# Altium footprint library UNO-TH_Rev3e2.PcbLib: 31 footprints (part 1 of 2)
Each footprint in its own frame and in the unit in brackets; x right, y up, seen from the top. Pads: shape width x height; smd on the part's side, far side on the other; paste and mask are expansions set on the pad; w line width, h text height; cw(c..) or ccw(c..) is an arc to the next point about the centre after c.
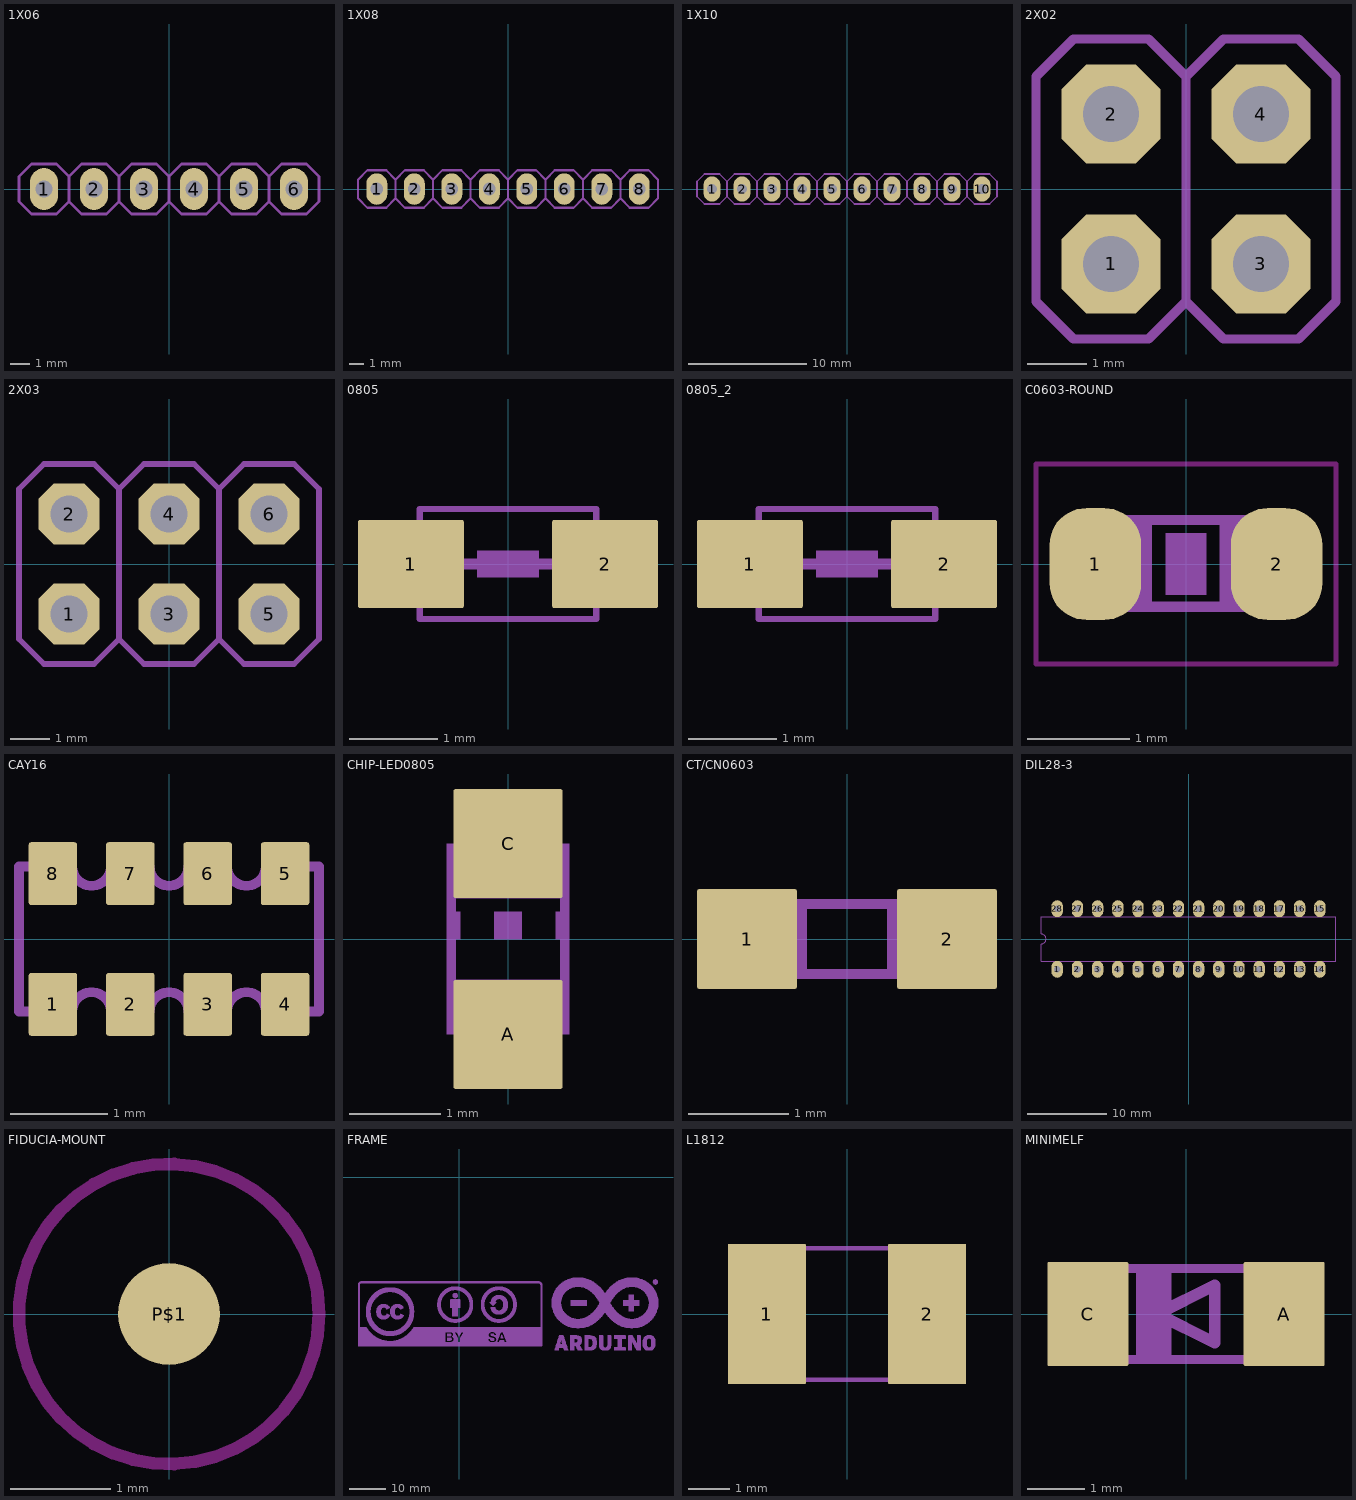
[diagram p0: the footprints below, top view; thin cyan lines are the x and y axes]

## 1X06 [mil] "1X06"
pads (6):
  oval 56x84 / inner round 0 / far side oval 56x84 hole 33.46: 1(-250,0) 2(-150,0) 3(-50,0) 4(50,0) 5(150,0) 6(250,0)
Mechanical 3:
  region: 240,-10 240,10 260,10 260,-10
  region: -260,-10 -260,10 -240,10 -240,-10
  region: -160,-10 -160,10 -140,10 -140,-10
  region: -60,-10 -60,10 -40,10 -40,-10
  region: 40,-10 40,10 60,10 60,-10
  region: 140,-10 140,10 160,10 160,-10
Mechanical 7:
  lines w6: -200,-25 -175,-50 -125,-50 -100,-25 ; -200,-25 -225,-50 -275,-50 -300,-25 -300,25 -275,50 -225,50 -200,25 ; -200,-25 -200,25 ; -200,25 -175,50 -125,50 -100,25 ; -100,-25 -100,25 ; -100,-25 -75,-50 -25,-50 0,-25 ; -100,25 -75,50 -25,50 0,25 ; 0,-25 25,-50 75,-50 100,-25 ; 0,-25 0,25 ; 0,25 25,50 75,50 100,25 ; 100,-25 125,-50 175,-50 200,-25 ; 100,-25 100,25 ; 100,25 125,50 175,50 200,25 ; 200,-25 225,-50 275,-50 300,-25 300,25 275,50 225,50 200,25 ; 200,-25 200,25

## 1X08 [mil] "1X08"
pads (8):
  oval 56x84 / inner round 0 / far side oval 56x84 hole 33.46: 1(-350,0) 2(-250,0) 3(-150,0) 4(-50,0) 5(50,0) 6(150,0) 7(250,0) 8(350,0)
Mechanical 3:
  region: 240,-10 240,10 260,10 260,-10
  region: 140,-10 140,10 160,10 160,-10
  region: 40,-10 40,10 60,10 60,-10
  region: -60,-10 -60,10 -40,10 -40,-10
  region: -160,-10 -160,10 -140,10 -140,-10
  region: -260,-10 -260,10 -240,10 -240,-10
  region: -360,-10 -360,10 -340,10 -340,-10
  region: 340,-10 340,10 360,10 360,-10
Mechanical 7:
  lines w6: -300,-25 -300,25 ; -300,-25 -325,-50 -375,-50 -400,-25 -400,25 -375,50 -325,50 -300,25 ; -300,-25 -275,-50 -225,-50 -200,-25 ; -300,25 -275,50 -225,50 -200,25 ; -200,-25 -175,-50 -125,-50 -100,-25 ; -200,-25 -200,25 ; -200,25 -175,50 -125,50 -100,25 ; -100,-25 -100,25 ; -100,-25 -75,-50 -25,-50 0,-25 ; -100,25 -75,50 -25,50 0,25 ; 0,-25 0,25 ; 0,-25 25,-50 75,-50 100,-25 ; 0,25 25,50 75,50 100,25 ; 100,-25 125,-50 175,-50 200,-25 ; 100,-25 100,25 ; 100,25 125,50 175,50 200,25 ; 200,-25 200,25 ; 200,-25 225,-50 275,-50 300,-25 ; 200,25 225,50 275,50 300,25 ; 300,-25 300,25 ; 300,-25 325,-50 375,-50 400,-25 400,25 375,50 325,50 300,25

## 1X10 [mil] "1X10"
pads (10):
  oval 56x84 / inner round 0 / far side oval 56x84 hole 33.46: 1(-450,0) 2(-350,0) 3(-250,0) 4(-150,0) 5(-50,0) 6(50,0) 7(150,0) 8(250,0) 9(350,0) 10(450,0)
Mechanical 3:
  region: 340,-10 340,10 360,10 360,-10
  region: 240,-10 240,10 260,10 260,-10
  region: 140,-10 140,10 160,10 160,-10
  region: 40,-10 40,10 60,10 60,-10
  region: -60,-10 -60,10 -40,10 -40,-10
  region: -160,-10 -160,10 -140,10 -140,-10
  region: -260,-10 -260,10 -240,10 -240,-10
  region: -360,-10 -360,10 -340,10 -340,-10
  region: -460,-10 -460,10 -440,10 -440,-10
  region: 440,-10 440,10 460,10 460,-10
Mechanical 7:
  lines w6: -400,-25 -400,25 ; -400,-25 -425,-50 -475,-50 -500,-25 -500,25 -475,50 -425,50 -400,25 ; -400,-25 -375,-50 -325,-50 -300,-25 ; -400,25 -375,50 -325,50 -300,25 ; -300,-25 -275,-50 -225,-50 -200,-25 ; -300,-25 -300,25 ; -300,25 -275,50 -225,50 -200,25 ; -200,-25 -200,25 ; -200,-25 -175,-50 -125,-50 -100,-25 ; -200,25 -175,50 -125,50 -100,25 ; -100,-25 -100,25 ; -100,-25 -75,-50 -25,-50 0,-25 ; -100,25 -75,50 -25,50 0,25 ; 0,-25 25,-50 75,-50 100,-25 ; 0,-25 0,25 ; 0,25 25,50 75,50 100,25 ; 100,-25 100,25 ; 100,-25 125,-50 175,-50 200,-25 ; 100,25 125,50 175,50 200,25 ; 200,-25 200,25 ; 200,-25 225,-50 275,-50 300,-25 ; 200,25 225,50 275,50 300,25 ; 300,-25 325,-50 375,-50 400,-25 ; 300,-25 300,25 ; 300,25 325,50 375,50 400,25 ; 400,-25 400,25 ; 400,-25 425,-50 475,-50 500,-25 500,25 475,50 425,50 400,25

## 2X02 [mil] "2X02"
pads (4):
  oct 66x66 / inner round 0 / far side oct 66x66 hole 37.4: 1(-50,-50) 2(-50,50) 3(50,-50) 4(50,50)
Mechanical 3:
  region: -60,-60 -60,-40 -40,-40 -40,-60
  region: -60,40 -60,60 -40,60 -40,40
  region: 40,40 40,60 60,60 60,40
  region: 40,-60 40,-40 60,-40 60,-60
Mechanical 7:
  lines w6: 0,-75 -25,-100 -75,-100 -100,-75 -100,75 -75,100 -25,100 0,75 ; 0,-75 25,-100 75,-100 100,-75 100,75 75,100 25,100 0,75 ; 0,-75 0,75

## 2X03 [mil] "2X03"
pads (6):
  oct 61.02x61.02 / inner round 0 / far side oct 61.02x61.02 hole 37.4: 1(-100,-50) 2(-100,50) 3(0,-50) 4(0,50) 5(100,-50) 6(100,50)
Mechanical 3:
  region: 90,-60 90,-40 110,-40 110,-60
  region: 90,40 90,60 110,60 110,40
  region: -10,-60 -10,-40 10,-40 10,-60
  region: -10,40 -10,60 10,60 10,40
  region: -110,40 -110,60 -90,60 -90,40
  region: -110,-60 -110,-40 -90,-40 -90,-60
Mechanical 7:
  lines w6: -50,-75 -50,75 ; -50,-75 -25,-100 25,-100 50,-75 ; -50,-75 -75,-100 -125,-100 -150,-75 -150,75 -125,100 -75,100 -50,75 ; -50,75 -25,100 25,100 50,75 ; 50,-75 75,-100 125,-100 150,-75 150,75 125,100 75,100 50,75 ; 50,-75 50,75

## 0805 [mm] "0805"
pads (2):
  rrect5% 1.2x1 smd: 1(-1.1,0) 2(1.1,0)
Mechanical 3:
  lines w0.07: -1,-0.625 -1,0.625 ; 1,-0.625 1,0.625
  lines w0.127: -1.1,0 1.1,0
Mechanical 7:
  region: -0.35,-0.15 -0.35,0.15 0.35,0.15 0.35,-0.15
  lines w0.07: -1,-0.625 1,-0.625 ; -1,0.625 1,0.625
  lines w0.127: -1.3,0 1.2,0

## 0805_2 [mm]
pads (2):
  rrect5% 1.2x1 smd: 1(-1.1,0) 2(1.1,0)
Mechanical 3:
  lines w0.07: -1,-0.625 -1,0.625 ; 1,-0.625 1,0.625
  lines w0.127: -1.1,0 1.1,0
Mechanical 7:
  region: -0.35,-0.15 -0.35,0.15 0.35,0.15 0.35,-0.15
  lines w0.07: -1,-0.625 1,-0.625 ; -1,0.625 1,0.625
  lines w0.127: -1.3,0 1.2,0

## C0603-ROUND [mil] "C0603-ROUND"
pads (2):
  rrect80% 35.37x43.31 smd: 1(-35,0) 2(35,0)
Top Layer keep-out:
  lines w2: -57.99,-38.7 57.99,-38.7 57.99,38.7 -57.99,38.7 -57.99,-38.7
Mechanical 3:
  region: -33,-18.5 -33,18.9 -13.31,18.9 -13.31,-18.5
  region: 13,-18.5 13,18.9 32.69,18.9 32.69,-18.5
  lines w4: -14.02,-16.5 14.02,-16.5 ; -14.02,17.01 14.02,17.01
Top Glue Points:
  region: -7.87,-11.81 -7.87,11.81 7.87,11.81 7.87,-11.81

## CAY16 [mm] "CAY16"
pads (8):
  rrect10% 0.5x0.65 smd: 1(-1.2,-0.675) 2(-0.4,-0.675) 3(0.4,-0.675) 4(1.2,-0.675) 5(1.2,0.675) 6(0.4,0.675) 7(-0.4,0.675) 8(-1.2,0.675)
Mechanical 3:
  lines w0.102: -1.55,-0.75 -1.55,0.75 -1,0.75 ccw(c-0.8,0.75) -0.6,0.75 -0.2,0.75 ccw(c0,0.75) 0.2,0.75 0.6,0.75 ccw(c0.8,0.75) 1,0.75 1.55,0.75 1.55,-0.75 1,-0.75 ccw(c0.8,-0.75) 0.6,-0.75 0.2,-0.75 ccw(c0,-0.75) -0.2,-0.75 -0.6,-0.75 ccw(c-0.8,-0.75) -1,-0.75 -1.55,-0.75

## CHIP-LED0805 [mil] "CHIP-LED0805"
pads (2):
  rrect4% 47.24x47.24 smd: A(0,-41.34) C(0,41.34)
Mechanical 3:
  region: -26.57,17.72 -26.57,41.34 26.57,41.34 26.57,17.72
  region: -26.57,-41.34 -26.57,-17.72 26.57,-17.72 26.57,-41.34
  lines w4: -24.61,-17.72 -24.61,17.72 ; 24.61,-18.7 24.61,17.72
Mechanical 7:
  region: -26.57,0 -26.57,11.81 -20.67,11.81 -20.67,0
  region: 20.67,0 20.67,11.81 26.57,11.81 26.57,0
  region: -5.91,0 -5.91,11.81 5.91,11.81 5.91,0

## CT/CN0603 [mm] "CT/CN0603"
pads (2):
  rrect5% 1x1 smd: 1(-1,0) 2(1,0)
Mechanical 3:
  region: -0.75,-0.35 -0.75,0.35 -0.4,0.35 -0.4,-0.35
  region: 0.75,0.35 0.75,-0.35 0.4,-0.35 0.4,0.35
  lines w0.102: -0.75,-0.35 0.75,-0.35 0.75,0.35 -0.75,0.35 -0.75,-0.35

## DIL28-3 [mil] "DIL28-3"
pads (28):
  oval 56x84 / inner round 0 / far side oval 56x84 hole 33.46: 1(-650,-150) 2(-550,-150) 3(-450,-150) 4(-350,-150) 5(-250,-150) 6(-150,-150) 7(-50,-150) 8(50,-150) 9(150,-150) 10(250,-150) 11(350,-150) 12(450,-150) 13(550,-150) 14(650,-150) 15(650,150) 16(550,150) 17(450,150) 18(350,150) 19(250,150) 20(150,150) 21(50,150) 22(-50,150) 23(-150,150) 24(-250,150) 25(-350,150) 26(-450,150) 27(-550,150) 28(-650,150)
Mechanical 7:
  lines w6: -730,-110 -730,-25 ccw(c-730,0) -730,25 -730,110 730,110 730,-110 -730,-110

## FIDUCIA-MOUNT [mil] "FIDUCIA-MOUNT"
pads (1):
  rrect100% 40x40 smd: P$1(0,0)
Top Layer keep-out:
  circle w5: c0,0 r59.06
Top Solder:
  circle w86: c0,0 r19.69

## FRAME [mil] "FRAME"
Mechanical 20:
  drawing of 6280 lines, arcs and shapes, not listed
  text "Reference Designs ARE PROVIDED \"AS IS\" AND \"WITH ALL FAULTS. Arduino SA DISCLAIMS ALL OTHER WARRANTIES, EXPRESS OR IMPLIED," at -3100,-291.28 h50.2
  text "REGARDING PRODUCTS, INCLUDING BUT NOT LIMITED TO, ANY IMPLIED WARRANTIES OF MERCHANTABILITY OR FITNESS FOR A PARTICULAR PURPOSE" at -3100,-379.87 h50.2
  text "Arduino SA may make changes to specifications and product descriptions at any time, without notice. The Customer must not" at -3100,-557.05 h50.2
  text "rely on the absence or characteristics of any features or instructions marked \"reserved\" or \"undefined.\" Arduino SA reserves" at -3100,-645.64 h50.2
  text "these for future definition and shall have no responsibility whatsoever for conflicts or incompatibilities arising from future changes to them." at -3100,-734.23 h50.2
  text "The product information on the Web Site or Materials is subject to change without notice. Do not finalize a design with this info" at -3100,-822.82 h50.2
  text "ARDUINO and other Arduino brands and logos and Trademarks of Arduino SA. All Arduino SA Trademarks cannot be used without owner's formal permission" at -3100,-1000 h50.2

## L1812 [mil] "L1812"
pads (2):
  rrect2% 74.8x133.86 smd: 1(-76.77,0) 2(76.77,0)
Mechanical 3:
  region: -94,-65 -94,64.92 -56.6,64.92 -56.6,-65
  region: 57,-65 57,64.92 94.4,64.92 94.4,-65
  lines w4: -58,63 58,63 ; -57,-63 58,-63

## MINIMELF [mil] "MINIMELF"
pads (2):
  rrect3% 55.12x70.87 smd: A(66.93,0) C(-66.93,0)
Mechanical 3:
  region: -73,-34 -73,34 -51,34 -51,-34
  region: 51,-34 51,34 73,34 73,-34
  lines w6: -52,-31 52,-31 ; -52,31 52,31
Mechanical 7:
  region: -34,-31 -34,31 -10,31 -10,-31
  lines w8: -19.69,0 19.69,19.69 19.69,-19.69 -19.69,0